# Altium integrated library Linear Technology Power Management PMIC Multifunction.IntLib: 360 symbols (part 27 of 42)
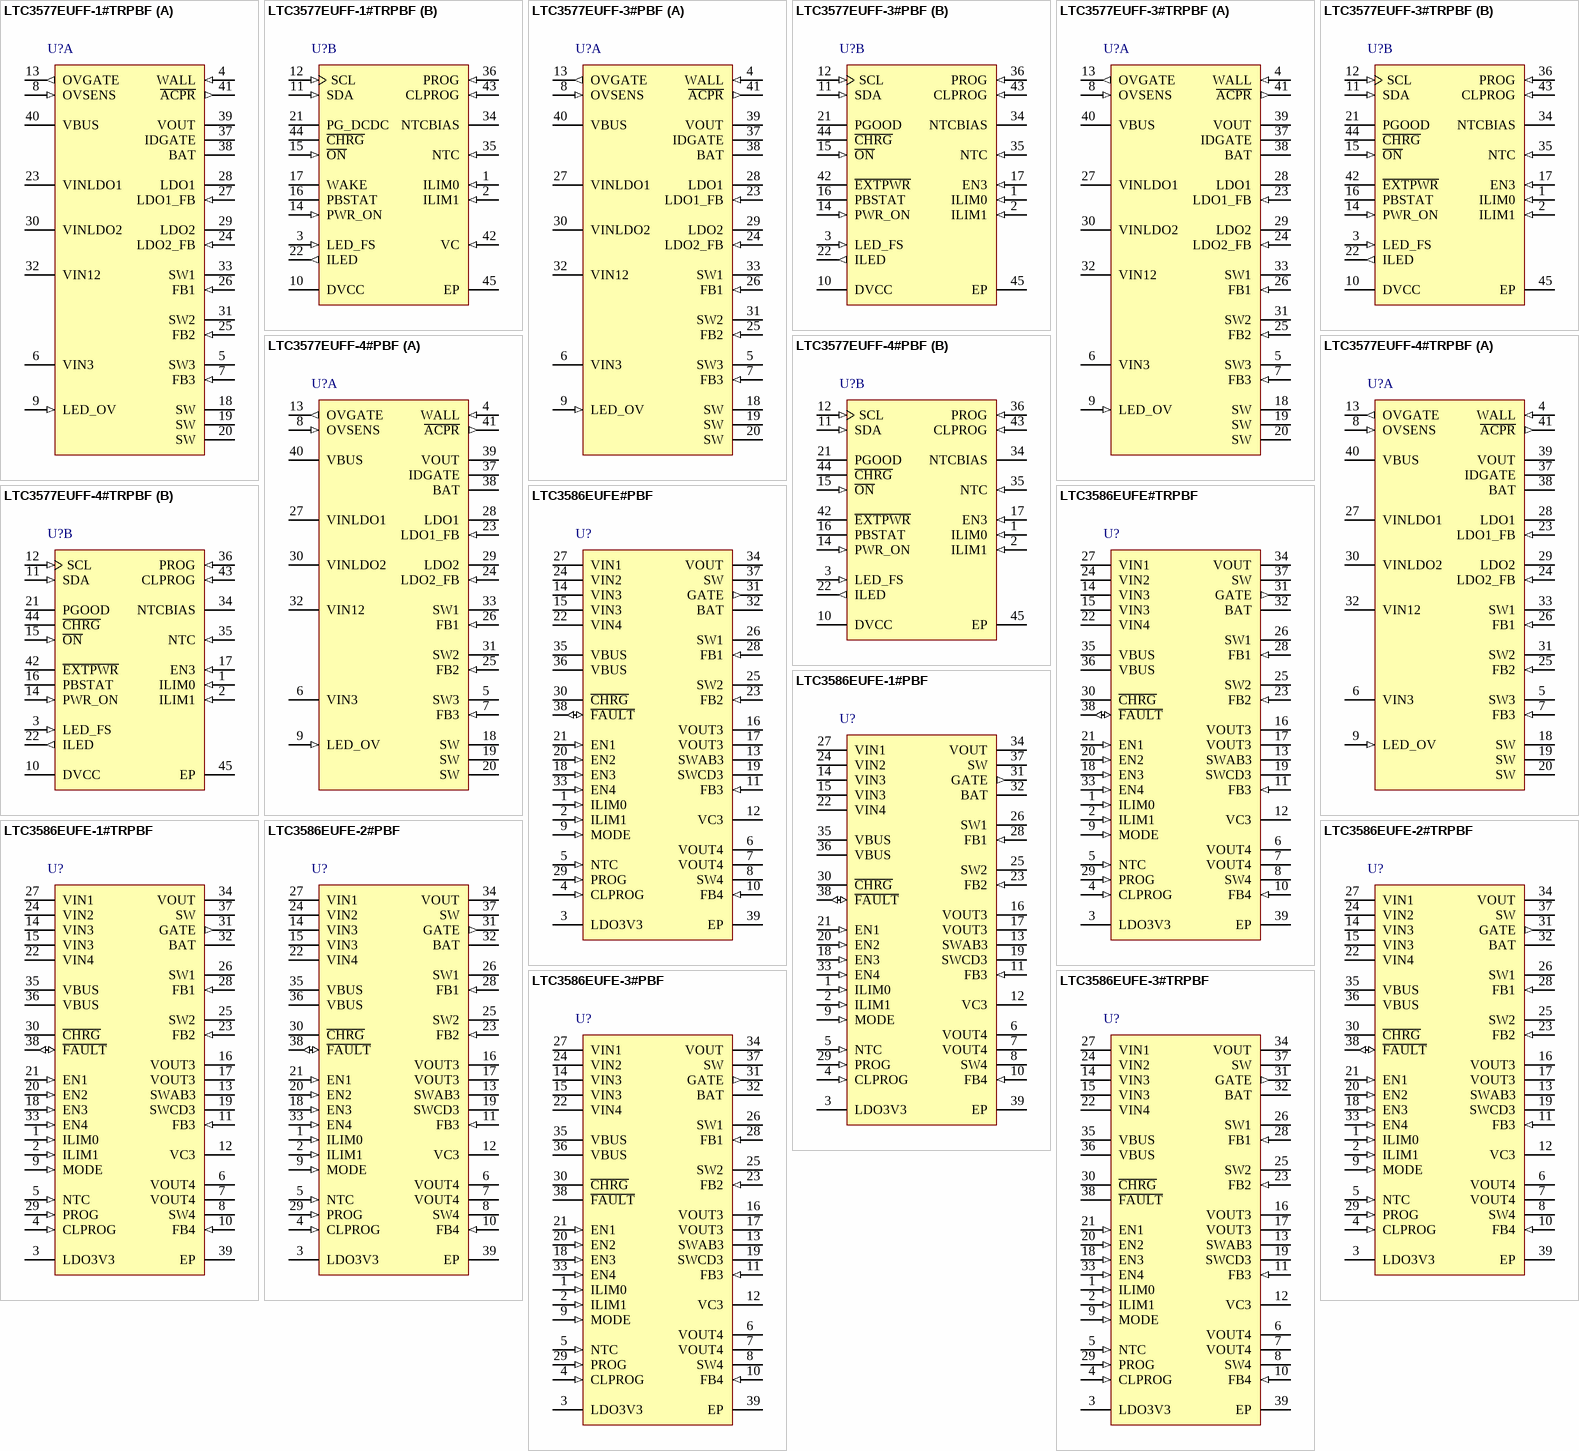
[diagram p44: symbols LTC3577EUFF-1#TRPBF to LTC3586EUFE-3#TRPBF]

## LTC3586EUFE#PBF
designator U?
High Efficiency USB Power Manager with Boost, Buck-Boost and Dual Bucks, 4.35 to 5.5 V Vin, 38-pin QFN (UFE-38), -40 to 85 degC, Pb-Free; Manufacturer: Linear Technology; PartNumber: LTC3586EUFE#PBF; Number of Cells: 1; Number of Outputs: 4; Vin Max(V): 5.5; Vin Min(V): 4.35; DatasheetVersion: Rev. B; PackageVersion: Rev. B, 03/2012; PackageReference: UFE-38; PackageDescription: 38-Pin Plastic QFN, Body 4 x 6 mm, Pitch 0.4 mm; Supplier 1: Digi-Key; Supplier Part Number 1: LTC3586EUFE#PBF-ND; Supplier 2: Newark; Supplier Part Number 2: 07P8302; RoHS: TRUE; Mounting Technology: Surface Mount; ComponentLink1Description: Manufacturer URL; ComponentLink1URL: http://www.linear.com/; ComponentLink2Description: Datasheet; ComponentLink2URL: http://cds.linear.com/docs/en/datasheet/3586fb.pdf; ComponentLink3Description: Package Specification; ComponentLink3URL: http://cds.linear.com/docs/en/datasheet/358623f.pdf
footprint LT-UFE-38_N (QFN, 38-Leads, Body 6.1x4.1mm, Pitch 0.4mm, Thermal Pad 2.65x4.65mm, IPC Medium Density)
footprint LT-UFE-38_L (QFN, 38-Leads, Body 6.1x4.1mm, Pitch 0.4mm, Thermal Pad 2.65x4.65mm, IPC High Density)
footprint LT-UFE-38_M (QFN, 38-Leads, Body 6.1x4.1mm, Pitch 0.4mm, Thermal Pad 2.65x4.65mm, IPC Low Density)
pins: 1 ILIM0 (in) "Logic Inputs. ILIM0 and ILIM1 control the current limit of the PowerPath switching regulator. See Table 1.", 2 ILIM1 (in) "Logic Inputs. ILIM0 and ILIM1 control the current limit of the PowerPath switching regulator. See Table 1.", 3 LDO3V3 (power) "3.3V LDO Output Pin. This pin provides a regulated always-on 3.3V supply voltage. LDO3V3 gets its power from VOUT. It may be used for light loads such as a watch dog microprocessor or real time clock. A 1uF capacitor is (See Datasheet)", 4 CLPROG (in) "USB Current Limit Program and Monitor Pin. A resistor from CLPROG to ground determines the upper limit of the current drawn from the VBUS pin. A fraction of the VBUS current is sent to the CLPROG pin when the synchronous (See Datasheet)", 5 NTC (in) "Input to the Thermistor Monitoring Circuits. The NTC pin connects to a battery’s thermistor to determine if the battery is too hot or too cold to charge. If the battery’s temperature is out of range, charging is pau(See Datasheet)", 6 VOUT4 (power) "Power Output for the (Boost) Switching Regulator 4. A 10uF MLCC capacitor should be placed as close to the pins as possible.", 7 VOUT4 (power) "Power Output for the (Boost) Switching Regulator 4. A 10uF MLCC capacitor should be placed as close to the pins as possible.", 8 SW4 "Switch Node for the (Boost) Switching Regulator 4. An external inductor connects between this pin and VIN4.", 9 MODE (in) "Digital Input. The MODE pin controls different modes of operation for the switching regulators according to Table 2.", 10 FB4 (in) "Feedback Input for the (Boost) Switching Regulator 4. When the control loop is complete, the voltage on this pin servos to 0.8V.", 11 FB3 (in) "Feedback Input for (Buck-Boost) Switching Regulator 3. When regulator 3’s control loop is complete, this pin servos to 0.8V.", 12 VC3 "Output of the Error Amplifier and Voltage Compensation Node for (Buck-Boost) Switching Regulator 3. External Type I or Type III compensation (to FB3) connects to this pin. See the Applications Information section for (See Datasheet)", 13 SWAB3 "Switch Node for (Buck-Boost) Switching Regulator 3. Connected to Internal Power Switches A and B. An external inductor connects between this node and SWCD3.", 14 VIN3 (power) "Power Input for (Buck-Boost) Switching Regulator 3. These pins will generally be connected to VOUT. A 1uF MLCC capacitor is recommended on these pins.", 15 VIN3 (power) "Power Input for (Buck-Boost) Switching Regulator 3. These pins will generally be connected to VOUT. A 1uF MLCC capacitor is recommended on these pins.", 16 VOUT3 (power) "Output Voltage for (Buck-Boost) Switching Regulator 3.", 17 VOUT3 (power) "Output Voltage for (Buck-Boost) Switching Regulator 3.", 18 EN3 (in) "Digital Input. This input enables the buck-boost switching regulator 3.", 19 SWCD3 "Switch Node for (Buck-Boost) Switching Regulator 3 Connected to Internal Power Switches C and D. An external inductor connects between this node and SWAB3.", 20 EN2 (in) "Digital Input. This input enables the buck switching regulator 2.", 21 EN1 (in) "Digital Input. This input enables the buck switching regulator 1.", 22 VIN4 (power) "Power Input for Switching Regulator 4 (Boost). This pin will generally be connected to VOUT. A 1uF MLCC capacitor is recommended on this pin.", 23 FB2 (in) "Feedback Input for (Buck) Switching Regulator 2. When regulator 2’s control loop is complete, this pin servos to 0.8V.", 24 VIN2 (power) "Power Input for (Buck) Switching Regulator 2. This pin will generally be connected to VOUT. A 1uF MLCC capacitor is recommended on this pin.", 25 SW2 (power) "Power Transmission Pin for (Buck) Switching Regulator 2.", 26 SW1 (power) "Power Transmission Pin for (Buck) Switching Regulator 1.", 27 VIN1 (power) "Power Input for (Buck) Switching Regulator 1. This pin will generally be connected to VOUT. A 1uF MLCC capacitor is recommended on this pin.", 28 FB1 (in) "Feedback Input for (Buck) Switching Regulator 1. When regulator 1’s control loop is complete, this pin servos to 0.8V.", 29 PROG (in) "Charge Current Program and Charge Current Monitor Pin. Connecting a resistor from PROG to ground programs the charge current. If sufficient input power is available in constant-current mode, this pin servos to 1V. The (See Datasheet)", 30 ~{CHRG} (hiz) "Open-Drain Charge Status Output. The C\H\R\G\ pin indicates the status of the battery charger. Four possible states are represented by C\H\R\G\: charging, not charging, unresponsive battery and battery temperature out of (See Datasheet)", 31 GATE (out) "Analog Output. This pin controls the gate of an optional external P-channel MOSFET transistor used to supplement the ideal diode between VOUT and BAT. The external ideal diode operates in parallel with the internal ideal (See Datasheet)", 32 BAT (power) "Single Cell Li-Ion Battery Pin. Depending on available VBUS power, a Li-Ion battery on BAT will either deliver power to VOUT through the ideal diode or be charged from VOUT via the battery charger.", 33 EN4 (in) "Digital Input. This input enables the boost switching regulator 4.", 34 VOUT (power) "Output Voltage of the Switching PowerPath Controller and Input Voltage of the Battery Charger. The majority of the portable product should be powered from VOUT. The LTC3586/LTC3586-1 will partition the available power (See Datasheet)", 35 VBUS (power) "Primary Input Power Pin. These pins deliver power to VOUT via the SW pin by drawing controlled current from a DC source such as a USB port or wall adapter.", 36 VBUS (power) "Primary Input Power Pin. These pins deliver power to VOUT via the SW pin by drawing controlled current from a DC source such as a USB port or wall adapter.", 37 SW (power) "Power Transmission Pin for the USB Power Path. The SW pin delivers power from VBUS to VOUT via the buck switching regulator. A 3.3uH inductor should be connected from SW to VOUT.", 38 ~{FAULT} (io) "Bi-directional input/output (open-drain) used to alert or receive information from other power management ICs regarding an electrical fault.", 39 EP (power) "Ground. The exposed pad should be connected to a continuous ground plane on the second layer of the printed circuit board by several vias directly under the LTC3586/LTC3586-1."

## LTC3586EUFE#TRPBF
designator U?
High Efficiency USB Power Manager with Boost, Buck-Boost and Dual Bucks, 4.35 to 5.5 V Vin, 38-pin QFN (UFE-38), -40 to 85 degC, Pb-Free, Tape and Reel; Manufacturer: Linear Technology; PartNumber: LTC3586EUFE#TRPBF; Number of Cells: 1; Number of Outputs: 4; Vin Max(V): 5.5; Vin Min(V): 4.35; DatasheetVersion: Rev. B; PackageVersion: Rev. B, 03/2012; PackageReference: UFE-38; PackageDescription: 38-Pin Plastic QFN, Body 4 x 6 mm, Pitch 0.4 mm; Supplier 1: Digi-Key; Supplier Part Number 1: LTC3586EUFE#TRPBF-ND; Packing: Tape and Reel; RoHS: TRUE; Mounting Technology: Surface Mount; ComponentLink1Description: Manufacturer URL; ComponentLink1URL: http://www.linear.com/; ComponentLink2Description: Datasheet; ComponentLink2URL: http://cds.linear.com/docs/en/datasheet/3586fb.pdf; ComponentLink3Description: Package Specification; ComponentLink3URL: http://cds.linear.com/docs/en/datasheet/358623f.pdf
footprint LT-UFE-38_N (QFN, 38-Leads, Body 6.1x4.1mm, Pitch 0.4mm, Thermal Pad 2.65x4.65mm, IPC Medium Density)
footprint LT-UFE-38_L (QFN, 38-Leads, Body 6.1x4.1mm, Pitch 0.4mm, Thermal Pad 2.65x4.65mm, IPC High Density)
footprint LT-UFE-38_M (QFN, 38-Leads, Body 6.1x4.1mm, Pitch 0.4mm, Thermal Pad 2.65x4.65mm, IPC Low Density)
pins: 1 ILIM0 (in) "Logic Inputs. ILIM0 and ILIM1 control the current limit of the PowerPath switching regulator. See Table 1.", 2 ILIM1 (in) "Logic Inputs. ILIM0 and ILIM1 control the current limit of the PowerPath switching regulator. See Table 1.", 3 LDO3V3 (power) "3.3V LDO Output Pin. This pin provides a regulated always-on 3.3V supply voltage. LDO3V3 gets its power from VOUT. It may be used for light loads such as a watch dog microprocessor or real time clock. A 1uF capacitor is (See Datasheet)", 4 CLPROG (in) "USB Current Limit Program and Monitor Pin. A resistor from CLPROG to ground determines the upper limit of the current drawn from the VBUS pin. A fraction of the VBUS current is sent to the CLPROG pin when the synchronous (See Datasheet)", 5 NTC (in) "Input to the Thermistor Monitoring Circuits. The NTC pin connects to a battery’s thermistor to determine if the battery is too hot or too cold to charge. If the battery’s temperature is out of range, charging is pau(See Datasheet)", 6 VOUT4 (power) "Power Output for the (Boost) Switching Regulator 4. A 10uF MLCC capacitor should be placed as close to the pins as possible.", 7 VOUT4 (power) "Power Output for the (Boost) Switching Regulator 4. A 10uF MLCC capacitor should be placed as close to the pins as possible.", 8 SW4 "Switch Node for the (Boost) Switching Regulator 4. An external inductor connects between this pin and VIN4.", 9 MODE (in) "Digital Input. The MODE pin controls different modes of operation for the switching regulators according to Table 2.", 10 FB4 (in) "Feedback Input for the (Boost) Switching Regulator 4. When the control loop is complete, the voltage on this pin servos to 0.8V.", 11 FB3 (in) "Feedback Input for (Buck-Boost) Switching Regulator 3. When regulator 3’s control loop is complete, this pin servos to 0.8V.", 12 VC3 "Output of the Error Amplifier and Voltage Compensation Node for (Buck-Boost) Switching Regulator 3. External Type I or Type III compensation (to FB3) connects to this pin. See the Applications Information section for (See Datasheet)", 13 SWAB3 "Switch Node for (Buck-Boost) Switching Regulator 3. Connected to Internal Power Switches A and B. An external inductor connects between this node and SWCD3.", 14 VIN3 (power) "Power Input for (Buck-Boost) Switching Regulator 3. These pins will generally be connected to VOUT. A 1uF MLCC capacitor is recommended on these pins.", 15 VIN3 (power) "Power Input for (Buck-Boost) Switching Regulator 3. These pins will generally be connected to VOUT. A 1uF MLCC capacitor is recommended on these pins.", 16 VOUT3 (power) "Output Voltage for (Buck-Boost) Switching Regulator 3.", 17 VOUT3 (power) "Output Voltage for (Buck-Boost) Switching Regulator 3.", 18 EN3 (in) "Digital Input. This input enables the buck-boost switching regulator 3.", 19 SWCD3 "Switch Node for (Buck-Boost) Switching Regulator 3 Connected to Internal Power Switches C and D. An external inductor connects between this node and SWAB3.", 20 EN2 (in) "Digital Input. This input enables the buck switching regulator 2.", 21 EN1 (in) "Digital Input. This input enables the buck switching regulator 1.", 22 VIN4 (power) "Power Input for Switching Regulator 4 (Boost). This pin will generally be connected to VOUT. A 1uF MLCC capacitor is recommended on this pin.", 23 FB2 (in) "Feedback Input for (Buck) Switching Regulator 2. When regulator 2’s control loop is complete, this pin servos to 0.8V.", 24 VIN2 (power) "Power Input for (Buck) Switching Regulator 2. This pin will generally be connected to VOUT. A 1uF MLCC capacitor is recommended on this pin.", 25 SW2 (power) "Power Transmission Pin for (Buck) Switching Regulator 2.", 26 SW1 (power) "Power Transmission Pin for (Buck) Switching Regulator 1.", 27 VIN1 (power) "Power Input for (Buck) Switching Regulator 1. This pin will generally be connected to VOUT. A 1uF MLCC capacitor is recommended on this pin.", 28 FB1 (in) "Feedback Input for (Buck) Switching Regulator 1. When regulator 1’s control loop is complete, this pin servos to 0.8V.", 29 PROG (in) "Charge Current Program and Charge Current Monitor Pin. Connecting a resistor from PROG to ground programs the charge current. If sufficient input power is available in constant-current mode, this pin servos to 1V. The (See Datasheet)", 30 ~{CHRG} (hiz) "Open-Drain Charge Status Output. The C\H\R\G\ pin indicates the status of the battery charger. Four possible states are represented by C\H\R\G\: charging, not charging, unresponsive battery and battery temperature out of (See Datasheet)", 31 GATE (out) "Analog Output. This pin controls the gate of an optional external P-channel MOSFET transistor used to supplement the ideal diode between VOUT and BAT. The external ideal diode operates in parallel with the internal ideal (See Datasheet)", 32 BAT (power) "Single Cell Li-Ion Battery Pin. Depending on available VBUS power, a Li-Ion battery on BAT will either deliver power to VOUT through the ideal diode or be charged from VOUT via the battery charger.", 33 EN4 (in) "Digital Input. This input enables the boost switching regulator 4.", 34 VOUT (power) "Output Voltage of the Switching PowerPath Controller and Input Voltage of the Battery Charger. The majority of the portable product should be powered from VOUT. The LTC3586/LTC3586-1 will partition the available power (See Datasheet)", 35 VBUS (power) "Primary Input Power Pin. These pins deliver power to VOUT via the SW pin by drawing controlled current from a DC source such as a USB port or wall adapter.", 36 VBUS (power) "Primary Input Power Pin. These pins deliver power to VOUT via the SW pin by drawing controlled current from a DC source such as a USB port or wall adapter.", 37 SW (power) "Power Transmission Pin for the USB Power Path. The SW pin delivers power from VBUS to VOUT via the buck switching regulator. A 3.3uH inductor should be connected from SW to VOUT.", 38 ~{FAULT} (io) "Bi-directional input/output (open-drain) used to alert or receive information from other power management ICs regarding an electrical fault.", 39 EP (power) "Ground. The exposed pad should be connected to a continuous ground plane on the second layer of the printed circuit board by several vias directly under the LTC3586/LTC3586-1."

## LTC3586EUFE-1#PBF
designator U?
High Efficiency USB Power Manager with Boost, Buck-Boost and Dual Bucks, 4.35 to 5.5 V Vin, 38-pin QFN (UFE-38), -40 to 85 degC, Pb-Free; Manufacturer: Linear Technology; PartNumber: LTC3586EUFE-1#PBF; Number of Cells: 1; Number of Outputs: 4; Vin Max(V): 5.5; Vin Min(V): 4.35; DatasheetVersion: Rev. B; PackageVersion: Rev. B, 03/2012; PackageReference: UFE-38; PackageDescription: 38-Pin Plastic QFN, Body 4 x 6 mm, Pitch 0.4 mm; Supplier 1: Digi-Key; Supplier Part Number 1: LTC3586EUFE-1#PBF-ND; RoHS: TRUE; Mounting Technology: Surface Mount; ComponentLink1Description: Manufacturer URL; ComponentLink1URL: http://www.linear.com/; ComponentLink2Description: Datasheet; ComponentLink2URL: http://cds.linear.com/docs/en/datasheet/3586fb.pdf; ComponentLink3Description: Package Specification; ComponentLink3URL: http://cds.linear.com/docs/en/datasheet/358623f.pdf
footprint LT-UFE-38_N (QFN, 38-Leads, Body 6.1x4.1mm, Pitch 0.4mm, Thermal Pad 2.65x4.65mm, IPC Medium Density)
footprint LT-UFE-38_L (QFN, 38-Leads, Body 6.1x4.1mm, Pitch 0.4mm, Thermal Pad 2.65x4.65mm, IPC High Density)
footprint LT-UFE-38_M (QFN, 38-Leads, Body 6.1x4.1mm, Pitch 0.4mm, Thermal Pad 2.65x4.65mm, IPC Low Density)
pins: 1 ILIM0 (in) "Logic Inputs. ILIM0 and ILIM1 control the current limit of the PowerPath switching regulator. See Table 1.", 2 ILIM1 (in) "Logic Inputs. ILIM0 and ILIM1 control the current limit of the PowerPath switching regulator. See Table 1.", 3 LDO3V3 (power) "3.3V LDO Output Pin. This pin provides a regulated always-on 3.3V supply voltage. LDO3V3 gets its power from VOUT. It may be used for light loads such as a watch dog microprocessor or real time clock. A 1uF capacitor is (See Datasheet)", 4 CLPROG (in) "USB Current Limit Program and Monitor Pin. A resistor from CLPROG to ground determines the upper limit of the current drawn from the VBUS pin. A fraction of the VBUS current is sent to the CLPROG pin when the synchronous (See Datasheet)", 5 NTC (in) "Input to the Thermistor Monitoring Circuits. The NTC pin connects to a battery’s thermistor to determine if the battery is too hot or too cold to charge. If the battery’s temperature is out of range, charging is pau(See Datasheet)", 6 VOUT4 (power) "Power Output for the (Boost) Switching Regulator 4. A 10uF MLCC capacitor should be placed as close to the pins as possible.", 7 VOUT4 (power) "Power Output for the (Boost) Switching Regulator 4. A 10uF MLCC capacitor should be placed as close to the pins as possible.", 8 SW4 "Switch Node for the (Boost) Switching Regulator 4. An external inductor connects between this pin and VIN4.", 9 MODE (in) "Digital Input. The MODE pin controls different modes of operation for the switching regulators according to Table 2.", 10 FB4 (in) "Feedback Input for the (Boost) Switching Regulator 4. When the control loop is complete, the voltage on this pin servos to 0.8V.", 11 FB3 (in) "Feedback Input for (Buck-Boost) Switching Regulator 3. When regulator 3’s control loop is complete, this pin servos to 0.8V.", 12 VC3 "Output of the Error Amplifier and Voltage Compensation Node for (Buck-Boost) Switching Regulator 3. External Type I or Type III compensation (to FB3) connects to this pin. See the Applications Information section for (See Datasheet)", 13 SWAB3 "Switch Node for (Buck-Boost) Switching Regulator 3. Connected to Internal Power Switches A and B. An external inductor connects between this node and SWCD3.", 14 VIN3 (power) "Power Input for (Buck-Boost) Switching Regulator 3. These pins will generally be connected to VOUT. A 1uF MLCC capacitor is recommended on these pins.", 15 VIN3 (power) "Power Input for (Buck-Boost) Switching Regulator 3. These pins will generally be connected to VOUT. A 1uF MLCC capacitor is recommended on these pins.", 16 VOUT3 (power) "Output Voltage for (Buck-Boost) Switching Regulator 3.", 17 VOUT3 (power) "Output Voltage for (Buck-Boost) Switching Regulator 3.", 18 EN3 (in) "Digital Input. This input enables the buck-boost switching regulator 3.", 19 SWCD3 "Switch Node for (Buck-Boost) Switching Regulator 3 Connected to Internal Power Switches C and D. An external inductor connects between this node and SWAB3.", 20 EN2 (in) "Digital Input. This input enables the buck switching regulator 2.", 21 EN1 (in) "Digital Input. This input enables the buck switching regulator 1.", 22 VIN4 (power) "Power Input for Switching Regulator 4 (Boost). This pin will generally be connected to VOUT. A 1uF MLCC capacitor is recommended on this pin.", 23 FB2 (in) "Feedback Input for (Buck) Switching Regulator 2. When regulator 2’s control loop is complete, this pin servos to 0.8V.", 24 VIN2 (power) "Power Input for (Buck) Switching Regulator 2. This pin will generally be connected to VOUT. A 1uF MLCC capacitor is recommended on this pin.", 25 SW2 (power) "Power Transmission Pin for (Buck) Switching Regulator 2.", 26 SW1 (power) "Power Transmission Pin for (Buck) Switching Regulator 1.", 27 VIN1 (power) "Power Input for (Buck) Switching Regulator 1. This pin will generally be connected to VOUT. A 1uF MLCC capacitor is recommended on this pin.", 28 FB1 (in) "Feedback Input for (Buck) Switching Regulator 1. When regulator 1’s control loop is complete, this pin servos to 0.8V.", 29 PROG (in) "Charge Current Program and Charge Current Monitor Pin. Connecting a resistor from PROG to ground programs the charge current. If sufficient input power is available in constant-current mode, this pin servos to 1V. The (See Datasheet)", 30 ~{CHRG} (hiz) "Open-Drain Charge Status Output. The C\H\R\G\ pin indicates the status of the battery charger. Four possible states are represented by C\H\R\G\: charging, not charging, unresponsive battery and battery temperature out of (See Datasheet)", 31 GATE (out) "Analog Output. This pin controls the gate of an optional external P-channel MOSFET transistor used to supplement the ideal diode between VOUT and BAT. The external ideal diode operates in parallel with the internal ideal (See Datasheet)", 32 BAT (power) "Single Cell Li-Ion Battery Pin. Depending on available VBUS power, a Li-Ion battery on BAT will either deliver power to VOUT through the ideal diode or be charged from VOUT via the battery charger.", 33 EN4 (in) "Digital Input. This input enables the boost switching regulator 4.", 34 VOUT (power) "Output Voltage of the Switching PowerPath Controller and Input Voltage of the Battery Charger. The majority of the portable product should be powered from VOUT. The LTC3586/LTC3586-1 will partition the available power (See Datasheet)", 35 VBUS (power) "Primary Input Power Pin. These pins deliver power to VOUT via the SW pin by drawing controlled current from a DC source such as a USB port or wall adapter.", 36 VBUS (power) "Primary Input Power Pin. These pins deliver power to VOUT via the SW pin by drawing controlled current from a DC source such as a USB port or wall adapter.", 37 SW (power) "Power Transmission Pin for the USB Power Path. The SW pin delivers power from VBUS to VOUT via the buck switching regulator. A 3.3uH inductor should be connected from SW to VOUT.", 38 ~{FAULT} (io) "Bi-directional input/output (open-drain) used to alert or receive information from other power management ICs regarding an electrical fault.", 39 EP (power) "Ground. The exposed pad should be connected to a continuous ground plane on the second layer of the printed circuit board by several vias directly under the LTC3586/LTC3586-1."

## LTC3586EUFE-1#TRPBF
designator U?
High Efficiency USB Power Manager with Boost, Buck-Boost and Dual Bucks, 4.35 to 5.5 V Vin, 38-pin QFN (UFE-38), -40 to 85 degC, Pb-Free, Tape and Reel; Manufacturer: Linear Technology; PartNumber: LTC3586EUFE-1#TRPBF; Number of Cells: 1; Number of Outputs: 4; Vin Max(V): 5.5; Vin Min(V): 4.35; DatasheetVersion: Rev. B; PackageVersion: Rev. B, 03/2012; PackageReference: UFE-38; PackageDescription: 38-Pin Plastic QFN, Body 4 x 6 mm, Pitch 0.4 mm; Supplier 1: Digi-Key; Supplier Part Number 1: LTC3586EUFE-1#TRPBF-ND; Packing: Tape and Reel; RoHS: TRUE; Mounting Technology: Surface Mount; ComponentLink1Description: Manufacturer URL; ComponentLink1URL: http://www.linear.com/; ComponentLink2Description: Datasheet; ComponentLink2URL: http://cds.linear.com/docs/en/datasheet/3586fb.pdf; ComponentLink3Description: Package Specification; ComponentLink3URL: http://cds.linear.com/docs/en/datasheet/358623f.pdf
footprint LT-UFE-38_N (QFN, 38-Leads, Body 6.1x4.1mm, Pitch 0.4mm, Thermal Pad 2.65x4.65mm, IPC Medium Density)
footprint LT-UFE-38_L (QFN, 38-Leads, Body 6.1x4.1mm, Pitch 0.4mm, Thermal Pad 2.65x4.65mm, IPC High Density)
footprint LT-UFE-38_M (QFN, 38-Leads, Body 6.1x4.1mm, Pitch 0.4mm, Thermal Pad 2.65x4.65mm, IPC Low Density)
pins: 1 ILIM0 (in) "Logic Inputs. ILIM0 and ILIM1 control the current limit of the PowerPath switching regulator. See Table 1.", 2 ILIM1 (in) "Logic Inputs. ILIM0 and ILIM1 control the current limit of the PowerPath switching regulator. See Table 1.", 3 LDO3V3 (power) "3.3V LDO Output Pin. This pin provides a regulated always-on 3.3V supply voltage. LDO3V3 gets its power from VOUT. It may be used for light loads such as a watch dog microprocessor or real time clock. A 1uF capacitor is (See Datasheet)", 4 CLPROG (in) "USB Current Limit Program and Monitor Pin. A resistor from CLPROG to ground determines the upper limit of the current drawn from the VBUS pin. A fraction of the VBUS current is sent to the CLPROG pin when the synchronous (See Datasheet)", 5 NTC (in) "Input to the Thermistor Monitoring Circuits. The NTC pin connects to a battery’s thermistor to determine if the battery is too hot or too cold to charge. If the battery’s temperature is out of range, charging is pau(See Datasheet)", 6 VOUT4 (power) "Power Output for the (Boost) Switching Regulator 4. A 10uF MLCC capacitor should be placed as close to the pins as possible.", 7 VOUT4 (power) "Power Output for the (Boost) Switching Regulator 4. A 10uF MLCC capacitor should be placed as close to the pins as possible.", 8 SW4 "Switch Node for the (Boost) Switching Regulator 4. An external inductor connects between this pin and VIN4.", 9 MODE (in) "Digital Input. The MODE pin controls different modes of operation for the switching regulators according to Table 2.", 10 FB4 (in) "Feedback Input for the (Boost) Switching Regulator 4. When the control loop is complete, the voltage on this pin servos to 0.8V.", 11 FB3 (in) "Feedback Input for (Buck-Boost) Switching Regulator 3. When regulator 3’s control loop is complete, this pin servos to 0.8V.", 12 VC3 "Output of the Error Amplifier and Voltage Compensation Node for (Buck-Boost) Switching Regulator 3. External Type I or Type III compensation (to FB3) connects to this pin. See the Applications Information section for (See Datasheet)", 13 SWAB3 "Switch Node for (Buck-Boost) Switching Regulator 3. Connected to Internal Power Switches A and B. An external inductor connects between this node and SWCD3.", 14 VIN3 (power) "Power Input for (Buck-Boost) Switching Regulator 3. These pins will generally be connected to VOUT. A 1uF MLCC capacitor is recommended on these pins.", 15 VIN3 (power) "Power Input for (Buck-Boost) Switching Regulator 3. These pins will generally be connected to VOUT. A 1uF MLCC capacitor is recommended on these pins.", 16 VOUT3 (power) "Output Voltage for (Buck-Boost) Switching Regulator 3.", 17 VOUT3 (power) "Output Voltage for (Buck-Boost) Switching Regulator 3.", 18 EN3 (in) "Digital Input. This input enables the buck-boost switching regulator 3.", 19 SWCD3 "Switch Node for (Buck-Boost) Switching Regulator 3 Connected to Internal Power Switches C and D. An external inductor connects between this node and SWAB3.", 20 EN2 (in) "Digital Input. This input enables the buck switching regulator 2.", 21 EN1 (in) "Digital Input. This input enables the buck switching regulator 1.", 22 VIN4 (power) "Power Input for Switching Regulator 4 (Boost). This pin will generally be connected to VOUT. A 1uF MLCC capacitor is recommended on this pin.", 23 FB2 (in) "Feedback Input for (Buck) Switching Regulator 2. When regulator 2’s control loop is complete, this pin servos to 0.8V.", 24 VIN2 (power) "Power Input for (Buck) Switching Regulator 2. This pin will generally be connected to VOUT. A 1uF MLCC capacitor is recommended on this pin.", 25 SW2 (power) "Power Transmission Pin for (Buck) Switching Regulator 2.", 26 SW1 (power) "Power Transmission Pin for (Buck) Switching Regulator 1.", 27 VIN1 (power) "Power Input for (Buck) Switching Regulator 1. This pin will generally be connected to VOUT. A 1uF MLCC capacitor is recommended on this pin.", 28 FB1 (in) "Feedback Input for (Buck) Switching Regulator 1. When regulator 1’s control loop is complete, this pin servos to 0.8V.", 29 PROG (in) "Charge Current Program and Charge Current Monitor Pin. Connecting a resistor from PROG to ground programs the charge current. If sufficient input power is available in constant-current mode, this pin servos to 1V. The (See Datasheet)", 30 ~{CHRG} (hiz) "Open-Drain Charge Status Output. The C\H\R\G\ pin indicates the status of the battery charger. Four possible states are represented by C\H\R\G\: charging, not charging, unresponsive battery and battery temperature out of (See Datasheet)", 31 GATE (out) "Analog Output. This pin controls the gate of an optional external P-channel MOSFET transistor used to supplement the ideal diode between VOUT and BAT. The external ideal diode operates in parallel with the internal ideal (See Datasheet)", 32 BAT (power) "Single Cell Li-Ion Battery Pin. Depending on available VBUS power, a Li-Ion battery on BAT will either deliver power to VOUT through the ideal diode or be charged from VOUT via the battery charger.", 33 EN4 (in) "Digital Input. This input enables the boost switching regulator 4.", 34 VOUT (power) "Output Voltage of the Switching PowerPath Controller and Input Voltage of the Battery Charger. The majority of the portable product should be powered from VOUT. The LTC3586/LTC3586-1 will partition the available power (See Datasheet)", 35 VBUS (power) "Primary Input Power Pin. These pins deliver power to VOUT via the SW pin by drawing controlled current from a DC source such as a USB port or wall adapter.", 36 VBUS (power) "Primary Input Power Pin. These pins deliver power to VOUT via the SW pin by drawing controlled current from a DC source such as a USB port or wall adapter.", 37 SW (power) "Power Transmission Pin for the USB Power Path. The SW pin delivers power from VBUS to VOUT via the buck switching regulator. A 3.3uH inductor should be connected from SW to VOUT.", 38 ~{FAULT} (io) "Bi-directional input/output (open-drain) used to alert or receive information from other power management ICs regarding an electrical fault.", 39 EP (power) "Ground. The exposed pad should be connected to a continuous ground plane on the second layer of the printed circuit board by several vias directly under the LTC3586/LTC3586-1."

## LTC3586EUFE-2#PBF
designator U?
High Efficiency USB Power Manager with Boost, Buck-Boost and Dual Bucks, 4.35 to 5.5 V Vin, 38-pin QFN (UFE-38), -40 to 85 degC, Pb-Free; Manufacturer: Linear Technology; PartNumber: LTC3586EUFE-2#PBF; Number of Cells: 1; Number of Outputs: 4; Vin Max(V): 5.5; Vin Min(V): 4.35; PackageVersion: Rev. B, 03/2012; PackageReference: UFE-38; PackageDescription: 38-Pin Plastic QFN, Body 4 x 6 mm, Pitch 0.4 mm; Supplier 1: Digi-Key; Supplier Part Number 1: LTC3586EUFE-2#PBF-ND; Supplier 2: Newark; Supplier Part Number 2: 94T1255; RoHS: TRUE; Mounting Technology: Surface Mount; ComponentLink1Description: Manufacturer URL; ComponentLink1URL: http://www.linear.com/; ComponentLink2Description: Datasheet; ComponentLink2URL: http://cds.linear.com/docs/en/datasheet/358623f.pdf; ComponentLink3Description: Package Specification; ComponentLink3URL: http://cds.linear.com/docs/en/datasheet/358623f.pdf
footprint LT-UFE-38_N (QFN, 38-Leads, Body 6.1x4.1mm, Pitch 0.4mm, Thermal Pad 2.65x4.65mm, IPC Medium Density)
footprint LT-UFE-38_L (QFN, 38-Leads, Body 6.1x4.1mm, Pitch 0.4mm, Thermal Pad 2.65x4.65mm, IPC High Density)
footprint LT-UFE-38_M (QFN, 38-Leads, Body 6.1x4.1mm, Pitch 0.4mm, Thermal Pad 2.65x4.65mm, IPC Low Density)
pins: 1 ILIM0 (in) "Logic Inputs. ILIM0 and ILIM1 control the current limit of the PowerPath switching regulator. See Table 1.", 2 ILIM1 (in) "Logic Inputs. ILIM0 and ILIM1 control the current limit of the PowerPath switching regulator. See Table 1.", 3 LDO3V3 (power) "3.3V LDO Output Pin. This pin provides a regulated always-on 3.3V supply voltage. LDO3V3 gets its power from VOUT. It may be used for light loads such as a watch dog microprocessor or real time clock. A 1uF capacitor is (See Datasheet)", 4 CLPROG (in) "USB Current Limit Program and Monitor Pin. A resistor from CLPROG to ground determines the upper limit of the current drawn from the VBUS pin. A fraction of the VBUS current is sent to the CLPROG pin when the synchronous (See Datasheet)", 5 NTC (in) "Input to the Thermistor Monitoring Circuits. The NTC pin connects to a battery’s thermistor to determine if the battery is too hot or too cold to charge. If the battery’s temperature is out of range, charging is pau(See Datasheet)", 6 VOUT4 (power) "Power Output for the (Boost) Switching Regulator 4. A 10uF MLCC capacitor should be placed as close to the pins as possible.", 7 VOUT4 (power) "Power Output for the (Boost) Switching Regulator 4. A 10uF MLCC capacitor should be placed as close to the pins as possible.", 8 SW4 "Switch Node for the (Boost) Switching Regulator 4. An external inductor connects between this pin and VIN4.", 9 MODE (in) "Digital Input. The MODE pin controls different modes of operation for the switching regulators according to Table 2.", 10 FB4 (in) "Feedback Input for the (Boost) Switching Regulator 4. When the control loop is complete, the voltage on this pin servos to 0.8V.", 11 FB3 (in) "Feedback Input for (Buck-Boost) Switching Regulator 3. When regulator 3’s control loop is complete, this pin servos to 0.8V.", 12 VC3 "Output of the Error Amplifier and Voltage Compensation Node for (Buck-Boost) Switching Regulator 3. External Type I or Type III compensation (to FB3) connects to this pin. See the Applications Information section for (See Datasheet)", 13 SWAB3 "Switch Node for (Buck-Boost) Switching Regulator 3. Connected to Internal Power Switches A and B. An external inductor connects between this node and SWCD3.", 14 VIN3 (power) "Power Input for (Buck-Boost) Switching Regulator 3. These pins will generally be connected to VOUT. A 1uF MLCC capacitor is recommended on these pins.", 15 VIN3 (power) "Power Input for (Buck-Boost) Switching Regulator 3. These pins will generally be connected to VOUT. A 1uF MLCC capacitor is recommended on these pins.", 16 VOUT3 (power) "Output Voltage for (Buck-Boost) Switching Regulator 3.", 17 VOUT3 (power) "Output Voltage for (Buck-Boost) Switching Regulator 3.", 18 EN3 (in) "Digital Input. This input enables the buck-boost switching regulator 3.", 19 SWCD3 "Switch Node for (Buck-Boost) Switching Regulator 3 Connected to Internal Power Switches C and D. An external inductor connects between this node and SWAB3.", 20 EN2 (in) "Digital Input. This input enables the buck switching regulator 2.", 21 EN1 (in) "Digital Input. This input enables the buck switching regulator 1.", 22 VIN4 (power) "Power Input for Switching Regulator 4 (Boost). This pin will generally be connected to VOUT. A 1uF MLCC capacitor is recommended on this pin.", 23 FB2 (in) "Feedback Input for (Buck) Switching Regulator 2. When regulator 2’s control loop is complete, this pin servos to 0.8V.", 24 VIN2 (power) "Power Input for (Buck) Switching Regulator 2. This pin will generally be connected to VOUT. A 1uF MLCC capacitor is recommended on this pin.", 25 SW2 (power) "Power Transmission Pin for (Buck) Switching Regulator 2.", 26 SW1 (power) "Power Transmission Pin for (Buck) Switching Regulator 1.", 27 VIN1 (power) "Power Input for (Buck) Switching Regulator 1. This pin will generally be connected to VOUT. A 1uF MLCC capacitor is recommended on this pin.", 28 FB1 (in) "Feedback Input for (Buck) Switching Regulator 1. When regulator 1’s control loop is complete, this pin servos to 0.8V.", 29 PROG (in) "Charge Current Program and Charge Current Monitor Pin. Connecting a resistor from PROG to ground programs the charge current. If sufficient input power is available in constant-current mode, this pin servos to 1V. The (See Datasheet)", 30 ~{CHRG} (hiz) "Open-Drain Charge Status Output. The C\H\R\G\ pin indicates the status of the battery charger. Four possible states are represented by C\H\R\G\: charging, not charging, unresponsive battery and battery temperature out of (See Datasheet)", 31 GATE (out) "Analog Output. This pin controls the gate of an optional external P-channel MOSFET transistor used to supplement the ideal diode between VOUT and BAT. The external ideal diode operates in parallel with the internal ideal (See Datasheet)", 32 BAT (power) "Single Cell Li-Ion Battery Pin. Depending on available VBUS power, a Li-Ion battery on BAT will either deliver power to VOUT through the ideal diode or be charged from VOUT via the battery charger.", 33 EN4 (in) "Digital Input. This input enables the boost switching regulator 4.", 34 VOUT (power) "Output Voltage of the Switching PowerPath Controller and Input Voltage of the Battery Charger. The majority of the portable product should be powered from VOUT. The LTC3586/LTC3586-1 will partition the available power (See Datasheet)", 35 VBUS (power) "Primary Input Power Pin. These pins deliver power to VOUT via the SW pin by drawing controlled current from a DC source such as a USB port or wall adapter.", 36 VBUS (power) "Primary Input Power Pin. These pins deliver power to VOUT via the SW pin by drawing controlled current from a DC source such as a USB port or wall adapter.", 37 SW (power) "Power Transmission Pin for the USB Power Path. The SW pin delivers power from VBUS to VOUT via the buck switching regulator. A 3.3uH inductor should be connected from SW to VOUT.", 38 ~{FAULT} (io) "Bi-directional input/output (open-drain) used to alert or receive information from other power management ICs regarding an electrical fault.", 39 EP (power) "Ground. The exposed pad should be connected to a continuous ground plane on the second layer of the printed circuit board by several vias directly under the LTC3586/LTC3586-1."

## LTC3586EUFE-2#TRPBF
designator U?
High Efficiency USB Power Manager with Boost, Buck-Boost and Dual Bucks, 4.35 to 5.5 V Vin, 38-pin QFN (UFE-38), -40 to 85 degC, Pb-Free, Tape and Reel; Manufacturer: Linear Technology; PartNumber: LTC3586EUFE-2#TRPBF; Number of Cells: 1; Number of Outputs: 4; Vin Max(V): 5.5; Vin Min(V): 4.35; PackageVersion: Rev. B, 03/2012; PackageReference: UFE-38; PackageDescription: 38-Pin Plastic QFN, Body 4 x 6 mm, Pitch 0.4 mm; Supplier 1: Digi-Key; Supplier Part Number 1: LTC3586EUFE-2#TRPBF-ND; Supplier 2: Newark; Supplier Part Number 2: 94T1256; Packing: Tape and Reel; RoHS: TRUE; Mounting Technology: Surface Mount; ComponentLink1Description: Manufacturer URL; ComponentLink1URL: http://www.linear.com/; ComponentLink2Description: Datasheet; ComponentLink2URL: http://cds.linear.com/docs/en/datasheet/358623f.pdf; ComponentLink3Description: Package Specification; ComponentLink3URL: http://cds.linear.com/docs/en/datasheet/358623f.pdf
footprint LT-UFE-38_N (QFN, 38-Leads, Body 6.1x4.1mm, Pitch 0.4mm, Thermal Pad 2.65x4.65mm, IPC Medium Density)
footprint LT-UFE-38_L (QFN, 38-Leads, Body 6.1x4.1mm, Pitch 0.4mm, Thermal Pad 2.65x4.65mm, IPC High Density)
footprint LT-UFE-38_M (QFN, 38-Leads, Body 6.1x4.1mm, Pitch 0.4mm, Thermal Pad 2.65x4.65mm, IPC Low Density)
pins: 1 ILIM0 (in) "Logic Inputs. ILIM0 and ILIM1 control the current limit of the PowerPath switching regulator. See Table 1.", 2 ILIM1 (in) "Logic Inputs. ILIM0 and ILIM1 control the current limit of the PowerPath switching regulator. See Table 1.", 3 LDO3V3 (power) "3.3V LDO Output Pin. This pin provides a regulated always-on 3.3V supply voltage. LDO3V3 gets its power from VOUT. It may be used for light loads such as a watch dog microprocessor or real time clock. A 1uF capacitor is (See Datasheet)", 4 CLPROG (in) "USB Current Limit Program and Monitor Pin. A resistor from CLPROG to ground determines the upper limit of the current drawn from the VBUS pin. A fraction of the VBUS current is sent to the CLPROG pin when the synchronous (See Datasheet)", 5 NTC (in) "Input to the Thermistor Monitoring Circuits. The NTC pin connects to a battery’s thermistor to determine if the battery is too hot or too cold to charge. If the battery’s temperature is out of range, charging is pau(See Datasheet)", 6 VOUT4 (power) "Power Output for the (Boost) Switching Regulator 4. A 10uF MLCC capacitor should be placed as close to the pins as possible.", 7 VOUT4 (power) "Power Output for the (Boost) Switching Regulator 4. A 10uF MLCC capacitor should be placed as close to the pins as possible.", 8 SW4 "Switch Node for the (Boost) Switching Regulator 4. An external inductor connects between this pin and VIN4.", 9 MODE (in) "Digital Input. The MODE pin controls different modes of operation for the switching regulators according to Table 2.", 10 FB4 (in) "Feedback Input for the (Boost) Switching Regulator 4. When the control loop is complete, the voltage on this pin servos to 0.8V.", 11 FB3 (in) "Feedback Input for (Buck-Boost) Switching Regulator 3. When regulator 3’s control loop is complete, this pin servos to 0.8V.", 12 VC3 "Output of the Error Amplifier and Voltage Compensation Node for (Buck-Boost) Switching Regulator 3. External Type I or Type III compensation (to FB3) connects to this pin. See the Applications Information section for (See Datasheet)", 13 SWAB3 "Switch Node for (Buck-Boost) Switching Regulator 3. Connected to Internal Power Switches A and B. An external inductor connects between this node and SWCD3.", 14 VIN3 (power) "Power Input for (Buck-Boost) Switching Regulator 3. These pins will generally be connected to VOUT. A 1uF MLCC capacitor is recommended on these pins.", 15 VIN3 (power) "Power Input for (Buck-Boost) Switching Regulator 3. These pins will generally be connected to VOUT. A 1uF MLCC capacitor is recommended on these pins.", 16 VOUT3 (power) "Output Voltage for (Buck-Boost) Switching Regulator 3.", 17 VOUT3 (power) "Output Voltage for (Buck-Boost) Switching Regulator 3.", 18 EN3 (in) "Digital Input. This input enables the buck-boost switching regulator 3.", 19 SWCD3 "Switch Node for (Buck-Boost) Switching Regulator 3 Connected to Internal Power Switches C and D. An external inductor connects between this node and SWAB3.", 20 EN2 (in) "Digital Input. This input enables the buck switching regulator 2.", 21 EN1 (in) "Digital Input. This input enables the buck switching regulator 1.", 22 VIN4 (power) "Power Input for Switching Regulator 4 (Boost). This pin will generally be connected to VOUT. A 1uF MLCC capacitor is recommended on this pin.", 23 FB2 (in) "Feedback Input for (Buck) Switching Regulator 2. When regulator 2’s control loop is complete, this pin servos to 0.8V.", 24 VIN2 (power) "Power Input for (Buck) Switching Regulator 2. This pin will generally be connected to VOUT. A 1uF MLCC capacitor is recommended on this pin.", 25 SW2 (power) "Power Transmission Pin for (Buck) Switching Regulator 2.", 26 SW1 (power) "Power Transmission Pin for (Buck) Switching Regulator 1.", 27 VIN1 (power) "Power Input for (Buck) Switching Regulator 1. This pin will generally be connected to VOUT. A 1uF MLCC capacitor is recommended on this pin.", 28 FB1 (in) "Feedback Input for (Buck) Switching Regulator 1. When regulator 1’s control loop is complete, this pin servos to 0.8V.", 29 PROG (in) "Charge Current Program and Charge Current Monitor Pin. Connecting a resistor from PROG to ground programs the charge current. If sufficient input power is available in constant-current mode, this pin servos to 1V. The (See Datasheet)", 30 ~{CHRG} (hiz) "Open-Drain Charge Status Output. The C\H\R\G\ pin indicates the status of the battery charger. Four possible states are represented by C\H\R\G\: charging, not charging, unresponsive battery and battery temperature out of (See Datasheet)", 31 GATE (out) "Analog Output. This pin controls the gate of an optional external P-channel MOSFET transistor used to supplement the ideal diode between VOUT and BAT. The external ideal diode operates in parallel with the internal ideal (See Datasheet)", 32 BAT (power) "Single Cell Li-Ion Battery Pin. Depending on available VBUS power, a Li-Ion battery on BAT will either deliver power to VOUT through the ideal diode or be charged from VOUT via the battery charger.", 33 EN4 (in) "Digital Input. This input enables the boost switching regulator 4.", 34 VOUT (power) "Output Voltage of the Switching PowerPath Controller and Input Voltage of the Battery Charger. The majority of the portable product should be powered from VOUT. The LTC3586/LTC3586-1 will partition the available power (See Datasheet)", 35 VBUS (power) "Primary Input Power Pin. These pins deliver power to VOUT via the SW pin by drawing controlled current from a DC source such as a USB port or wall adapter.", 36 VBUS (power) "Primary Input Power Pin. These pins deliver power to VOUT via the SW pin by drawing controlled current from a DC source such as a USB port or wall adapter.", 37 SW (power) "Power Transmission Pin for the USB Power Path. The SW pin delivers power from VBUS to VOUT via the buck switching regulator. A 3.3uH inductor should be connected from SW to VOUT.", 38 ~{FAULT} (io) "Bi-directional input/output (open-drain) used to alert or receive information from other power management ICs regarding an electrical fault.", 39 EP (power) "Ground. The exposed pad should be connected to a continuous ground plane on the second layer of the printed circuit board by several vias directly under the LTC3586/LTC3586-1."